# Altium schematic symbol library Onsemi.SchLib: 2 symbols
Pins are listed as number, name and electrical type; pins without a type are passive.

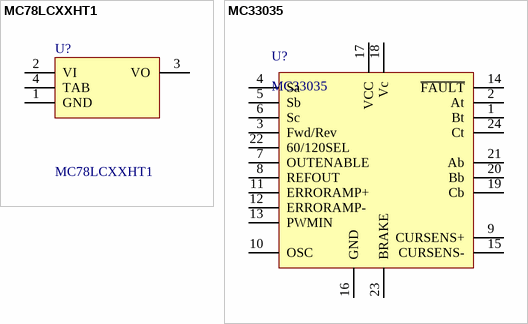
[diagram p0: symbols MC78LCXXHT1 to MC33035]

## MC78LCXXHT1
designator U?
Value: MC78LCXXHT1
pins: 1 GND, 2 VI, 3 VO, 4 TAB

## MC33035
designator U?
Value: MC33035
pins: 1 Bt, 2 At, 3 Fwd/Rev, 4 Sa, 5 Sb, 6 Sc, 7 OUTENABLE, 8 REFOUT, 9 CURSENS+, 10 OSC, 11 ERRORAMP+, 12 ERRORAMP-, 13 PWMIN, 14 ~{FAULT}, 15 CURSENS-, 16 GND, 17 VCC, 18 Vc, 19 Cb, 20 Bb, 21 Ab, 22 60/120SEL, 23 BRAKE, 24 Ct